# EAGLE library part 10P_BLANK (library bao18)
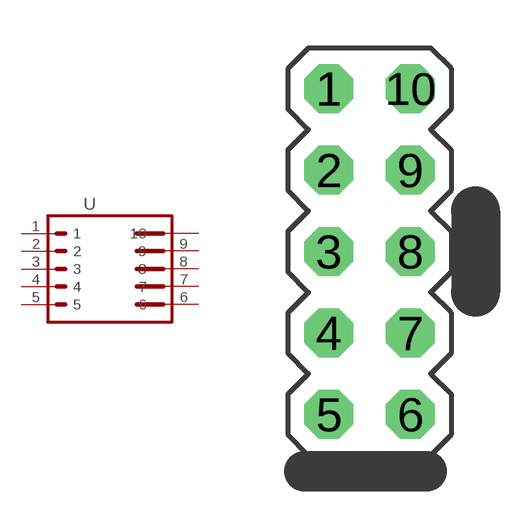
[diagram p13: symbol with the pads of CONN_10P_2X5_HEADER; footprint CONN_10P_2X5_HEADER]

Designator prefix -

## 10P_BLANK_JTAG_2X5 (NHPREF: 67; POPULATE: TRUE)  [CONN_10P_2X5_HEADER]
1  1  pas
2  2  pas
3  3  pas
4  4  pas
5  5  pas
6  6  pas
7  7  pas
8  8  pas
9  9  pas
10  10  pas

## Footprint CONN_10P_2X5_HEADER (pad centres in mm)
drill 1.016 octagon: 1 -1.27,5.08; 2 -1.27,2.54; 3 -1.27,0; 4 -1.27,-2.54; 5 -1.27,-5.08; 6 1.27,-5.08; 7 1.27,-2.54; 8 1.27,0; 9 1.27,2.54; 10 1.27,5.08